# Altium schematic symbol library RES,120R,5%,0.25W,Axial,Thru.Schlib: 1 symbol
Pins are listed as number, name and electrical type; pins without a type are passive.

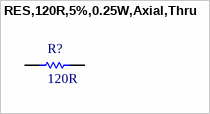
[diagram p0: symbol RES,120R,5%,0.25W,Axial,Thru]

## RES,120R,5%,0.25W,Axial,Thru
designator R?, comment 120R
120 Ohms ±5% 0.25W, 1/4W Through Hole Resistor Axial  Carbon Film
pins: 1, 2